# EAGLE library part OPA2314 (library amplifier)
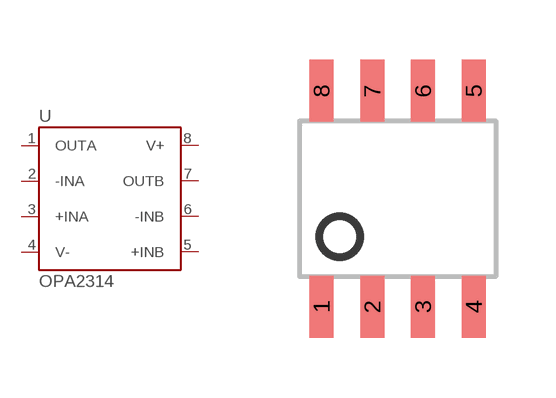
[diagram p0: symbol with the pads of 8-SOIC; footprint 8-SOIC]

Designator prefix U

## OPA2314SOIC  [8-SOIC]
1  OUTA  out
2  -INA  in
3  +INA  in
4  V-  pwr
5  +INB  in
6  -INB  in
7  OUTB  out
8  V+  pwr

## Footprint 8-SOIC (pad centres in mm)
Description: 8-Pin Small Outline Integrated Circuit
smd 0.6 x 1.55: 1 -1.905,-2.7; 2 -0.635,-2.7; 3 0.635,-2.7; 4 1.905,-2.7; 5 1.905,2.7; 6 0.635,2.7; 7 -0.635,2.7; 8 -1.905,2.7